# EAGLE library part MAX3087 (library jcole)
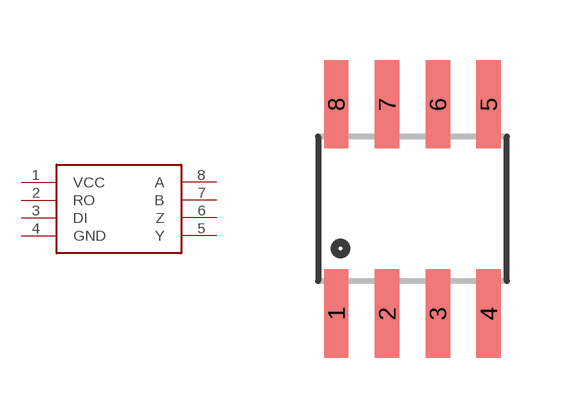
[diagram p0: symbol with the pads of SO08; footprint SO08]

Designator prefix -

## MAX3087  [SO08]
1  VCC  pwr
2  RO  out
3  DI  in
4  GND  pwr
5  Y  out
6  Z  out
7  B  in
8  A  in

## Footprint SO08 (pad centres in mm)
Small Outline Package Fits JEDEC packages (narrow SOIC-8)
smd 0.61 x 2.21: 1 -1.905,-2.616; 2 -0.635,-2.616; 3 0.635,-2.616; 4 1.905,-2.616; 5 1.905,2.616; 6 0.635,2.616; 7 -0.635,2.616; 8 -1.905,2.616